# Altium footprint library JST PH Connectors.PcbLib: 59 footprints (part 4 of 4)
Each footprint in its own frame and in the unit in brackets; x right, y up, seen from the top. Pads: shape width x height; smd on the part's side, far side on the other; paste and mask are expansions set on the pad; w line width, h text height; cw(c..) or ccw(c..) is an arc to the next point about the centre after c.
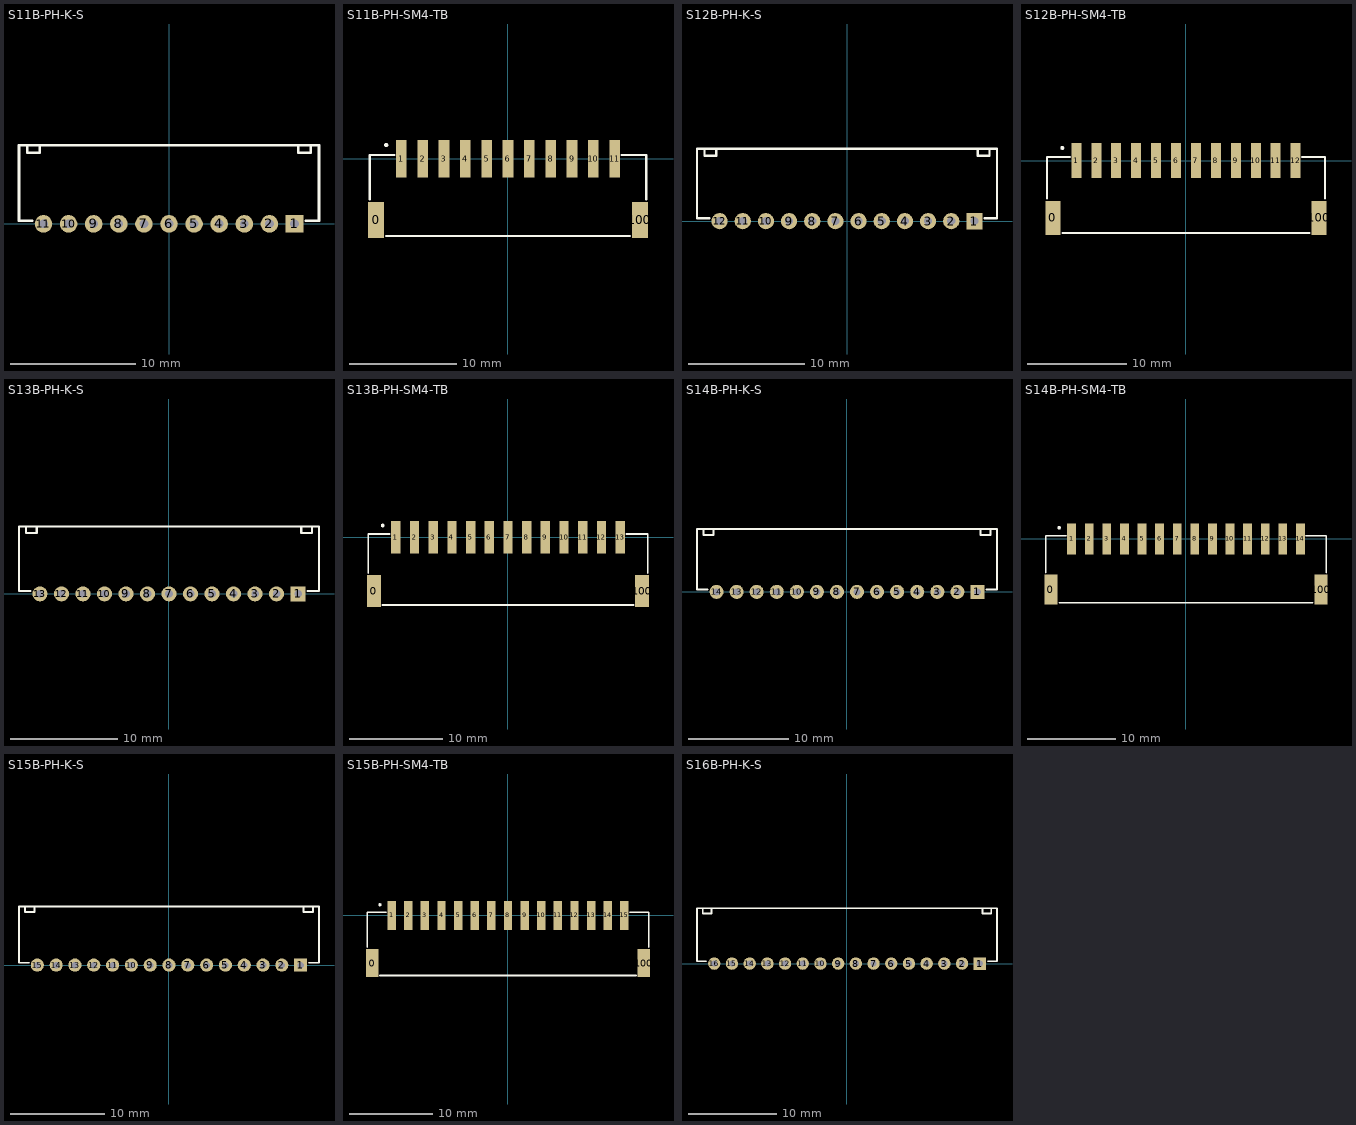
[diagram p3: the footprints below, top view; thin cyan lines are the x and y axes]

## S11B-PH-K-S [mm]
pads (11):
  rect 1.4x1.4 hole 0.7: 1(10,0)
  round 1.4 hole 0.7: 2(8,0) 3(6,0) 4(4,0) 5(2,0) 6(0,0) 7(-2,0) 8(-4,0) 9(-6,0) 10(-8,0) 11(-10,0)
Top Overlay:
  lines w0.2: -11.3,6.25 -11.3,5.65 -10.3,5.65 -10.3,6.25 ; -10.905,0.25 -11.95,0.25 -11.95,6.25 11.95,6.25 11.95,0.25 10.905,0.25 ; 10.3,6.25 10.3,5.65 11.3,5.65 11.3,6.25
3D body "S11B-PH-K-S.STEP": height 4.81, standoff -3.39, extent -11.95,-1.35 11.95,6.25

## S11B-PH-SM4-TB [mm]
height 5.5
pads (13):
  rect 1.5x3.4 smd: 0(-12.35,-5.75) 100(12.35,-5.75)
  rect 1x3.5 smd: 1(-10,0) 2(-8,0) 3(-6,0) 4(-4,0) 5(-2,0) 6(0,0) 7(2,0) 8(4,0) 9(6,0) 10(8,0) 11(10,0)
Top Overlay:
  circle w0.2: c-11.413,1.27 r0.1
  lines w0.2: -12.95,-3.81 -12.95,0.35 -10.651,0.35 ; -11.413,-7.25 11.413,-7.25 ; 10.651,0.35 12.95,0.35 12.95,-3.81
3D body "S11B-PH-SM4-TB.STEP": height 5.61, standoff 0.01, extent -12.95,-7.25 12.95,1.35

## S12B-PH-K-S [mm]
pads (12):
  rect 1.4x1.4 hole 0.7: 1(11,0)
  round 1.4 hole 0.7: 2(9,0) 3(7,0) 4(5,0) 5(3,0) 6(1,0) 7(-1,0) 8(-3,0) 9(-5,0) 10(-7,0) 11(-9,0) 12(-11,0)
Top Overlay:
  lines w0.2: -12.3,6.25 -12.3,5.65 -11.3,5.65 -11.3,6.25 ; -11.905,0.25 -12.95,0.25 -12.95,6.25 12.95,6.25 12.95,0.25 11.905,0.25 ; 11.3,6.25 11.3,5.65 12.3,5.65 12.3,6.25
3D body "S12B-PH-K-S.STEP": height 4.81, standoff -3.39, extent -12.95,-1.35 12.95,6.25

## S12B-PH-SM4-TB [mm]
height 5.5
pads (14):
  rect 1.5x3.4 smd: 0(-13.35,-5.75) 100(13.35,-5.75)
  rect 1x3.5 smd: 1(-11,0) 2(-9,0) 3(-7,0) 4(-5,0) 5(-3,0) 6(-1,0) 7(1,0) 8(3,0) 9(5,0) 10(7,0) 11(9,0) 12(11,0)
Top Overlay:
  circle w0.2: c-12.413,1.27 r0.1
  lines w0.2: -13.95,-3.81 -13.95,0.35 -11.651,0.35 ; -12.413,-7.25 12.413,-7.25 ; 11.651,0.35 13.95,0.35 13.95,-3.81
3D body "S12B-PH-SM4-TB.STEP": height 5.61, standoff 0.01, extent -13.95,-7.25 13.95,1.35

## S13B-PH-K-S [mm]
pads (13):
  rect 1.4x1.4 hole 0.7: 1(12,0)
  round 1.4 hole 0.7: 2(10,0) 3(8,0) 4(6,0) 5(4,0) 6(2,0) 7(0,0) 8(-2,0) 9(-4,0) 10(-6,0) 11(-8,0) 12(-10,0) 13(-12,0)
Top Overlay:
  lines w0.2: -13.3,6.25 -13.3,5.65 -12.3,5.65 -12.3,6.25 ; -12.905,0.25 -13.95,0.25 -13.95,6.25 13.95,6.25 13.95,0.25 12.905,0.25 ; 12.3,6.25 12.3,5.65 13.3,5.65 13.3,6.25
3D body "S13B-PH-K-S.STEP": height 6.31, standoff -1.89, extent -13.95,-1.35 13.95,6.25

## S13B-PH-SM4-TB [mm]
height 5.5
pads (15):
  rect 1.5x3.4 smd: 0(-14.35,-5.75) 100(14.35,-5.75)
  rect 1x3.5 smd: 1(-12,0) 2(-10,0) 3(-8,0) 4(-6,0) 5(-4,0) 6(-2,0) 7(0,0) 8(2,0) 9(4,0) 10(6,0) 11(8,0) 12(10,0) 13(12,0)
Top Overlay:
  circle w0.2: c-13.413,1.27 r0.1
  lines w0.2: -14.95,-3.81 -14.95,0.35 -12.651,0.35 ; -13.413,-7.25 13.413,-7.25 ; 12.651,0.35 14.95,0.35 14.95,-3.81
3D body "S13B-PH-SM4-TB.STEP": height 5.61, standoff 0.01, extent -14.95,-7.25 14.95,1.35

## S14B-PH-K-S [mm]
pads (14):
  rect 1.4x1.4 hole 0.7: 1(13,0)
  round 1.4 hole 0.7: 2(11,0) 3(9,0) 4(7,0) 5(5,0) 6(3,0) 7(1,0) 8(-1,0) 9(-3,0) 10(-5,0) 11(-7,0) 12(-9,0) 13(-11,0) 14(-13,0)
Top Overlay:
  lines w0.2: -14.3,6.25 -14.3,5.65 -13.3,5.65 -13.3,6.25 ; -13.905,0.25 -14.95,0.25 -14.95,6.25 14.95,6.25 14.95,0.25 13.905,0.25 ; 13.3,6.25 13.3,5.65 14.3,5.65 14.3,6.25
3D body "S14B-PH-K-S.STEP": height 4.81, standoff -3.39, extent -14.95,-1.35 14.95,6.25

## S14B-PH-SM4-TB [mm]
height 5.5
pads (16):
  rect 1.5x3.4 smd: 0(-15.35,-5.75) 100(15.35,-5.75)
  rect 1x3.5 smd: 1(-13,0) 2(-11,0) 3(-9,0) 4(-7,0) 5(-5,0) 6(-3,0) 7(-1,0) 8(1,0) 9(3,0) 10(5,0) 11(7,0) 12(9,0) 13(11,0) 14(13,0)
Top Overlay:
  circle w0.2: c-14.413,1.27 r0.1
  lines w0.2: -15.95,-3.81 -15.95,0.35 -13.651,0.35 ; -14.413,-7.25 14.413,-7.25 ; 13.651,0.35 15.95,0.35 15.95,-3.81
3D body "S14B-PH-SM4-TB.STEP": height 5.61, standoff 0.01, extent -15.95,-7.25 15.95,1.35

## S15B-PH-K-S [mm]
pads (15):
  rect 1.4x1.4 hole 0.7: 1(14,0)
  round 1.4 hole 0.7: 2(12,0) 3(10,0) 4(8,0) 5(6,0) 6(4,0) 7(2,0) 8(0,0) 9(-2,0) 10(-4,0) 11(-6,0) 12(-8,0) 13(-10,0) 14(-12,0) 15(-14,0)
Top Overlay:
  lines w0.2: -15.3,6.25 -15.3,5.65 -14.3,5.65 -14.3,6.25 ; -14.905,0.25 -15.95,0.25 -15.95,6.25 15.95,6.25 15.95,0.25 14.905,0.25 ; 14.3,6.25 14.3,5.65 15.3,5.65 15.3,6.25
3D body "S15B-PH-K-S.STEP": height 4.81, standoff -3.39, extent -15.95,-1.35 15.95,6.25

## S15B-PH-SM4-TB [mm]
height 5.5
pads (17):
  rect 1.5x3.4 smd: 0(-16.35,-5.75) 100(16.35,-5.75)
  rect 1x3.5 smd: 1(-14,0) 2(-12,0) 3(-10,0) 4(-8,0) 5(-6,0) 6(-4,0) 7(-2,0) 8(0,0) 9(2,0) 10(4,0) 11(6,0) 12(8,0) 13(10,0) 14(12,0) 15(14,0)
Top Overlay:
  circle w0.2: c-15.413,1.27 r0.1
  lines w0.2: -16.95,-3.81 -16.95,0.35 -14.651,0.35 ; -15.413,-7.25 15.413,-7.25 ; 14.651,0.35 16.95,0.35 16.95,-3.81
3D body "S15B-PH-SM4-TB.STEP": height 5.61, standoff 0.01, extent -16.95,-7.25 16.95,1.35

## S16B-PH-K-S [mm]
pads (16):
  rect 1.4x1.4 hole 0.7: 1(15,0)
  round 1.4 hole 0.7: 2(13,0) 3(11,0) 4(9,0) 5(7,0) 6(5,0) 7(3,0) 8(1,0) 9(-1,0) 10(-3,0) 11(-5,0) 12(-7,0) 13(-9,0) 14(-11,0) 15(-13,0) 16(-15,0)
Top Overlay:
  lines w0.2: -16.3,6.25 -16.3,5.65 -15.3,5.65 -15.3,6.25 ; -15.905,0.25 -16.95,0.25 -16.95,6.25 16.95,6.25 16.95,0.25 15.905,0.25 ; 15.3,6.25 15.3,5.65 16.3,5.65 16.3,6.25
3D body "S16B-PH-K-S.STEP": height 4.81, standoff -3.39, extent -16.95,-1.35 16.95,6.25